# Altium schematic symbol library diode_single.SchLib: 10 symbols
Pins are listed as number, name and electrical type; pins without a type are passive.

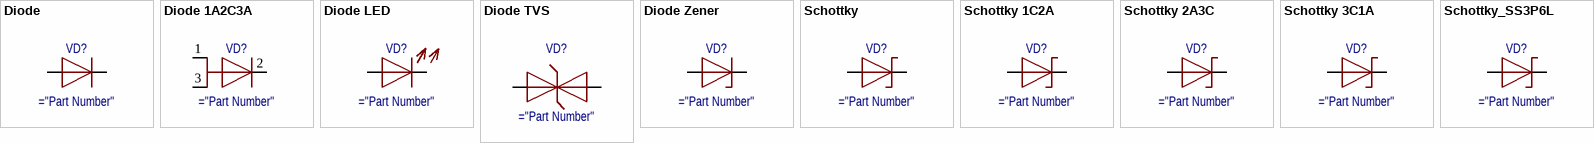
[diagram p0: symbols Diode to Schottky_SS3P6L]

## Diode
designator VD?
Диод
pins: 1 Anode, 2 Cathode

## Diode 1A2C3A
designator VD?
Диод
pins: 1 Anode, 2 Cathode, 3 Anode

## Diode LED
designator VD?
Светодиод
pins: 1 Anode, 2 Cathode

## Diode TVS
designator VD?
Супрессор
pins: 1, 2

## Diode Zener
designator VD?
Стабилитрон
pins: 1 Anode, 2 Cathode

## Schottky
designator VD?
Диод Шоттки
pins: 1 Anode, 2 Cathode

## Schottky 1C2A
designator VD?
Диод Шоттки
pins: 1 Cathode, 2 Anode

## Schottky 2A3C
designator VD?
Диод Шоттки
pins: 2 Anode, 3 Cathode

## Schottky 3C1A
designator VD?
Диод Шоттки
pins: 1 Anode, 3 Cathode

## Schottky_SS3P6L
designator VD?
Диод Шоттки
pins: 1,2 Anode, 3 Cathode